# Altium schematic symbol library Motor-Drivers.SchLib: 4 symbols
Pins are listed as number, name and electrical type; pins without a type are passive.

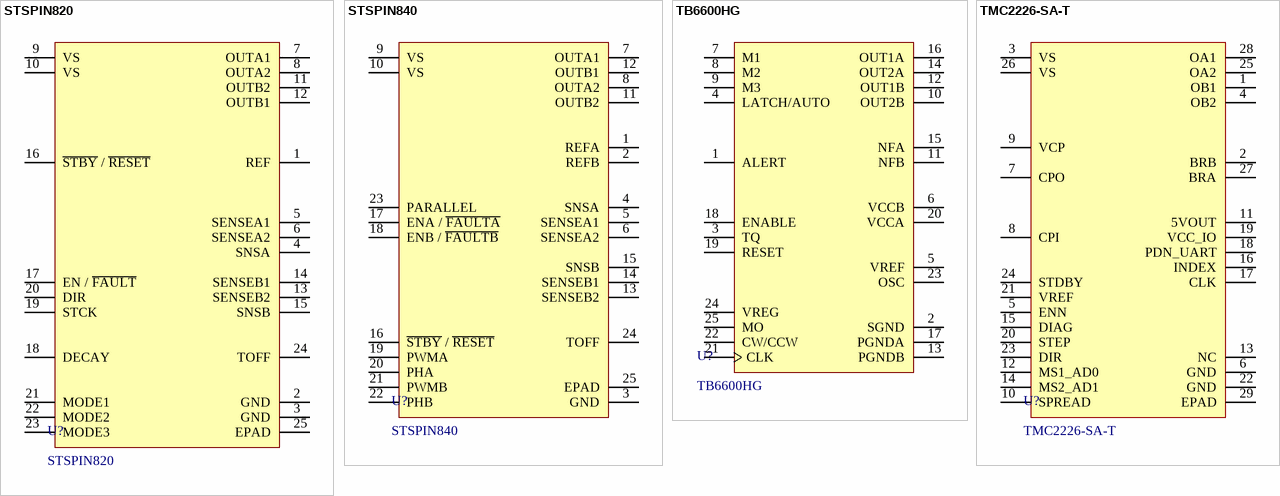
[diagram p0: symbols STSPIN820 to TMC2226-SA-T]

## STSPIN820
designator U?
IC MTR DRVR BIPLR 7-45V 24TFQFPN; Manufacturer: STMicroelectronics; Throw Configuration: STEPPER MOTOR CONTROLLER; Supplier: Digikey; Supplier Part Number: 497-17713-1-ND; Manufacturer Part Number: STSPIN820; RoHS: Yes; Category: Motor Drives; Stock: 11767; Pricing: 1=3.03, 10=2.271, 25=2.0804, 100=1.8709, 250=1.77096, 500=1.71068, 1000=1.66108 (USD); Reach SVHC Compliant: Yes; RoHS Compliant: Yes; ComponentLink1URL: https://datasheet.ciiva.com:443/pdfs/VipMasterIC/IC/SGST/SGST-S-A0005002811/SGST-S-A0005002811-1.pdf?src-supplier=IHS+Markit; ComponentLink1Description: https://datasheet.ciiva.com:443/pdfs/VipMasterIC/IC/SGST/SGST-S-A0005002811/SGST-S-A0005002811-1.pdf?src-supplier=IHS+Markit; ComponentLink2URL: http://www.farnell.com/datasheets/2549178.pdf?src-supplier=Farnell; ComponentLink2Description: http://www.farnell.com/datasheets/2549178.pdf?src-supplier=Farnell; ComponentLink3URL: http://www.st.com/content/ccc/resource/technical/document/datasheet/group3/64/0a/8b/fb/e5/29/46/34/DM00436631/files/DM00436631.pdf/jcr:content/translations/en.DM00436631.pdf?src-supplier=Digikey; ComponentLink3Description: http://www.st.com/content/ccc/resource/technical/document/datasheet/group3/64/0a/8b/fb/e5/29/46/34/DM00436631/files/DM00436631.pdf/jcr:content/translations/en.DM00436631.pdf?src-supplier=Digikey; ComponentLink4URL: https://datasheet.octopart.com/STSPIN820-STMicroelectronics-datasheet-99887157.pdf?src-supplier=Newark; ComponentLink4Description: https://datasheet.octopart.com/STSPIN820-STMicroelectronics-datasheet-99887157.pdf?src-supplier=Newark; ComponentLink5URL: http://www.farnell.com/datasheets/2549178.pdf?src-supplier=Newark; ComponentLink5Description: http://www.farnell.com/datasheets/2549178.pdf?src-supplier=Newark; ComponentLink6URL: https://datasheet.octopart.com/STSPIN820-STMicroelectronics-datasheet-163660309.pdf?src-supplier=SHENGYU+ELECTRONICS; ComponentLink6Description: https://datasheet.octopart.com/STSPIN820-STMicroelectronics-datasheet-163660309.pdf?src-supplier=SHENGYU+ELECTRONICS
footprint 24-TQFPN
pins: 1 REF, 2 GND, 3 GND, 4 SNSA, 5 SENSEA1, 6 SENSEA2, 7 OUTA1, 8 OUTA2, 9 VS, 10 VS, 11 OUTB2, 12 OUTB1, 13 SENSEB2, 14 SENSEB1, 15 SNSB, 16 ~{STBY} / ~{RESET}, 17 EN / ~{FAULT}, 18 DECAY, 19 STCK, 20 DIR, 21 MODE1, 22 MODE2, 23 MODE3, 24 TOFF, 25 EPAD

## STSPIN840
designator U?
IC MOTOR DRIVER 7V-45V 24TQFPN; Manufacturer: STMicroelectronics; Drain to Source Resistance: 500mΩ; Interface: Parallel; Max Output current: 1.5A; Max Supply Voltage: 45V; Min Supply Voltage: 7V; Number of Circuits: 1; Operating Supply Voltage: 36V; Output Voltage: 48V; Supplier: DigiKey; Supplier Part Number: 497-18119-1-ND; Manufacturer Part Number: STSPIN840; RoHS: Compliant; Category: Motor Drivers; Stock: 9342; Pricing: 1=2.95, 10=2.208, 25=2.022, 100=1.8174, 250=1.71984, 500=1.66102, 1000=1.61261 (USD); China RoHS: Compliant; Height - Seated (Max): 1.1mm; Length: 4mm; Lifecycle Status: Production; Max Operating Temperature: 150°C; Min Operating Temperature: -40°C; Number of Terminals: 24; Output Current: 1.5A; REACH SVHC: Yes; Schedule B: 8542390000, 8542390000|8542390000|8542390000|8542390000|8542390000; Terminal Pitch: 500µm; Width: 4mm; ComponentLink1URL: https://datasheet.octopart.com:443/STSPIN840-STMicroelectronics-datasheet-116891059.pdf?src-supplier=ODG+(Origin+Data+Global); ComponentLink1Description: https://datasheet.octopart.com:443/STSPIN840-STMicroelectronics-datasheet-116891059.pdf?src-supplier=ODG+(Origin+Data+Global)
footprint 24-TQFPN
pins: 1 REFA, 2 REFB, 3 GND, 4 SNSA, 5 SENSEA1, 6 SENSEA2, 7 OUTA1, 8 OUTA2, 9 VS, 10 VS, 11 OUTB2, 12 OUTB1, 13 SENSEB2, 14 SENSEB1, 15 SNSB, 16 ~{STBY} / ~{RESET}, 17 ENA / ~{FAULTA}, 18 ENB / ~{FAULTB}, 19 PWMA, 20 PHA, 21 PWMB, 22 PHB, 23 PARALLEL, 24 TOFF, 25 EPAD

## TB6600HG
designator U?
IC MTR DRVR BIPOLAR 8-42V 25HZIP; Manufacturer: Toshiba; Package Body Material: Plastic; Throw Configuration: STEPPER MOTOR CONTROLLER; Channels: 1; Max Output current: 5A; Max Supply Voltage: 42V; Min Supply Voltage: 8V; Nominal Supply Voltage: 24V; Surface Mount: No; Supplier: Digikey; Supplier Part Number: TB6600HG-ND; Manufacturer Part Number: TB6600HG; RoHS: Yes; Category: Integrated Circuits (ICs); Stock: 1587; Pricing: 1=6.25, 10=5.646, 25=5.3832, 100=4.6743, 250=4.4642, 510=4.07029, 1020=3.5451, 2550=3.4138 (USD); Pins: 25; Package Shape: Rectangular; Min Operating Temperature: -30°C; Max Operating Temperature: 85°C; Package Style: IN-LINE, SHRINK PITCHMeter; Technology: BCDMOS; Terminal Form: Through Hole; Terminal Position: ZIG-ZAG; Length: 28.8mm; Width: 4.5mm; Height - Seated (Max): 19.37mm; Terminal Pitch: 1mm; Temperature Grade: OTHER; RoHS Compliant: Yes; ComponentLink1URL: https://datasheet.ciiva.com:443/pdfs/VipMasterIC/IC/TOSC/TOSC-S-A0002249250/TOSC-S-A0002249250-1.pdf?src-supplier=IHS+Markit; ComponentLink1Description: https://datasheet.ciiva.com:443/pdfs/VipMasterIC/IC/TOSC/TOSC-S-A0002249250/TOSC-S-A0002249250-1.pdf?src-supplier=IHS+Markit; ComponentLink2URL: https://toshiba.semicon-storage.com/info/docget.jsp?did=14683&amp;prodName=TB6600HG&src-supplier=Digikey; ComponentLink2Description: https://toshiba.semicon-storage.com/info/docget.jsp?did=14683&amp;prodName=TB6600HG&src-supplier=Digikey
footprint HZIP25-1_00F (FM, 25-Leads, Body 4.5x29.3mm, Pitch 1mm)
pins: 1 ALERT "TSD / ISD monitor pin", 2 SGND "Signal ground", 3 TQ "Torque (output current) setting input pin", 4 LATCH/AUTO "Select a return type for TSD.", 5 VREF "Voltage input for 100% current level", 6 VCCB "Power supply", 7 M1 "Excitation mode setting input pin", 8 M2 "Excitation mode setting input pin", 9 M3 "Excitation mode setting input pin", 10 OUT2B "B channel output 2", 11 NFB "B channel output current detection pin", 12 OUT1B "B channel output 1", 13 PGNDB "Power ground", 14 OUT2A "A channel output 2", 15 NFA "A channel output current detection pin", 16 OUT1A "A channel output 1", 17 PGNDA "Power ground", 18 ENABLE "Enable signal input pin", 19 RESET "Reset signal input pin", 20 VCCA "Power supply", 21 CLK "CLK pulse input pin", 22 CW/CCW "Forward/reverse control pin", 23 OSC "Resistor connection pin for internal oscillation setting", 24 VREG "Control side connection pin for power capacitor", 25 MO "Electrical angle monitor pin"

## TMC2226-SA-T
designator U?
IC MTR DRV 4.75-29V HTSSOP28; Manufacturer: Trinamic; Supplier: Digikey; Supplier Part Number: 1460-TMC2226-SA-T-ND; Manufacturer Part Number: TMC2226-SA-T; RoHS: Yes; Category: Motor Drivers; ComponentLink1URL: https://www.trinamic.com/fileadmin/assets/Products/ICs_Documents/TMC2226_Datasheet_V106.pdf?src-supplier=Digikey; ComponentLink1Description: https://www.trinamic.com/fileadmin/assets/Products/ICs_Documents/TMC2226_Datasheet_V106.pdf?src-supplier=Digikey
footprint 28-HTSSOP
pins: 1 OB1, 2 BRB, 3 VS, 4 OB2, 5 ENN, 6 GND, 7 CPO, 8 CPI, 9 VCP, 10 SPREAD, 11 5VOUT, 12 MS1_AD0, 13 NC, 14 MS2_AD1, 15 DIAG, 16 INDEX, 17 CLK, 18 PDN_UART, 19 VCC_IO, 20 STEP, 21 VREF, 22 GND, 23 DIR, 24 STDBY, 25 OA2, 26 VS, 27 BRA, 28 OA1, 29 EPAD